# Altium schematic symbol library LD1117DT50CTR.Schlib: 1 symbol
Pins are listed as number, name and electrical type; pins without a type are passive.

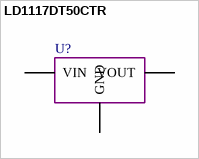
[diagram p0: symbol LD1117DT50CTR]

## LD1117DT50CTR
designator U?  (value not drawn)
pins: 1 GND (power), 3 VIN (power), 4 VOUT (power)